# EAGLE library part XCV600ES_FG680 (library xilinx-xcv)
xcv600es_fg680 edit this description Auto generated by make-symbol-device-package-bsdl.ulp Rev. 26 Source: xcv600es_fg680.bsd
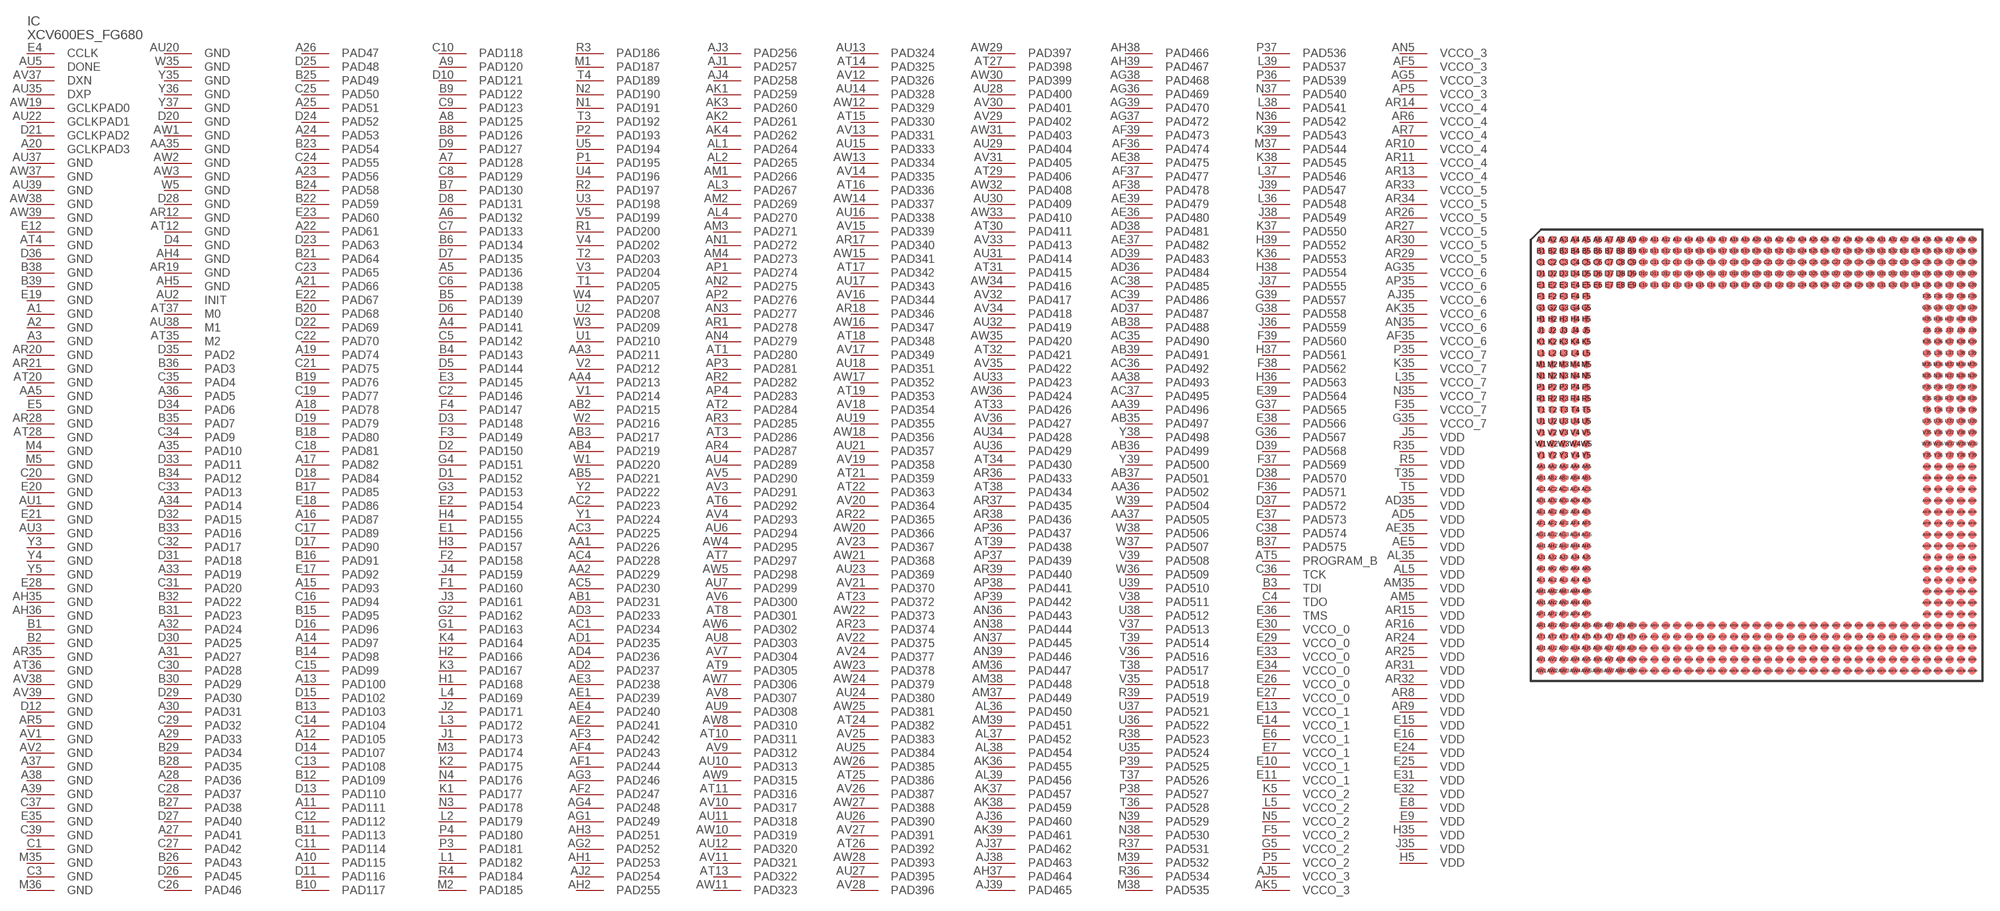
[diagram p125: symbol with the pads of FG680; footprint FG680]

Designator prefix IC

## XCV600ES_FG680  [FG680]
A1  GND  pwr
A2  GND  pwr
A3  GND  pwr
A4  PAD141
A5  PAD136
A6  PAD132
A7  PAD128
A8  PAD125
A9  PAD120
A10  PAD115
A11  PAD111
A12  PAD105
A13  PAD100
A14  PAD97
A15  PAD93
A16  PAD87
A17  PAD82
A18  PAD78
A19  PAD74
A20  GCLKPAD3  in
A21  PAD66
A22  PAD61
A23  PAD56
A24  PAD53
A25  PAD51
A26  PAD47
A27  PAD41
A28  PAD36
A29  PAD33
A30  PAD31
A31  PAD27
A32  PAD24
A33  PAD19
A34  PAD14
A35  PAD10
A36  PAD5
A37  GND  pwr
A38  GND  pwr
A39  GND  pwr
AA1  PAD226
AA2  PAD229
AA3  PAD211
AA4  PAD213
AA5  GND  pwr
AA35  GND  pwr
AA36  PAD502
AA37  PAD505
AA38  PAD493
AA39  PAD496
AB1  PAD231
AB2  PAD215
AB3  PAD217
AB4  PAD219
AB5  PAD221
AB35  PAD497
AB36  PAD499
AB37  PAD501
AB38  PAD488
AB39  PAD491
AC1  PAD234
AC2  PAD223
AC3  PAD225
AC4  PAD228
AC5  PAD230
AC35  PAD490
AC36  PAD492
AC37  PAD495
AC38  PAD485
AC39  PAD486
AD1  PAD235
AD2  PAD237
AD3  PAD233
AD4  PAD236
AD5  VDD  pwr
AD35  VDD  pwr
AD36  PAD484
AD37  PAD487
AD38  PAD481
AD39  PAD483
AE1  PAD239
AE2  PAD241
AE3  PAD238
AE4  PAD240
AE5  VDD  pwr
AE35  VDD  pwr
AE36  PAD480
AE37  PAD482
AE38  PAD475
AE39  PAD479
AF1  PAD244
AF2  PAD247
AF3  PAD242
AF4  PAD243
AF5  VCCO_3  pwr
AF35  VCCO_6  pwr
AF36  PAD474
AF37  PAD477
AF38  PAD478
AF39  PAD473
AG1  PAD249
AG2  PAD252
AG3  PAD246
AG4  PAD248
AG5  VCCO_3  pwr
AG35  VCCO_6  pwr
AG36  PAD469
AG37  PAD472
AG38  PAD468
AG39  PAD470
AH1  PAD253
AH2  PAD255
AH3  PAD251
AH4  GND  pwr
AH5  GND  pwr
AH35  GND  pwr
AH36  GND  pwr
AH37  PAD464
AH38  PAD466
AH39  PAD467
AJ1  PAD257
AJ2  PAD254
AJ3  PAD256
AJ4  PAD258
AJ5  VCCO_3  pwr
AJ35  VCCO_6  pwr
AJ36  PAD460
AJ37  PAD462
AJ38  PAD463
AJ39  PAD465
AK1  PAD259
AK2  PAD261
AK3  PAD260
AK4  PAD262
AK5  VCCO_3  pwr
AK35  VCCO_6  pwr
AK36  PAD455
AK37  PAD457
AK38  PAD459
AK39  PAD461
AL1  PAD264
AL2  PAD265
AL3  PAD267
AL4  PAD270
AL5  VDD  pwr
AL35  VDD  pwr
AL36  PAD450
AL37  PAD452
AL38  PAD454
AL39  PAD456
AM1  PAD266
AM2  PAD269
AM3  PAD271
AM4  PAD273
AM5  VDD  pwr
AM35  VDD  pwr
AM36  PAD447
AM37  PAD449
AM38  PAD448
AM39  PAD451
AN1  PAD272
AN2  PAD275
AN3  PAD277
AN4  PAD279
AN5  VCCO_3  pwr
AN35  VCCO_6  pwr
AN36  PAD443
AN37  PAD445
AN38  PAD444
AN39  PAD446
AP1  PAD274
AP2  PAD276
AP3  PAD281
AP4  PAD283
AP5  VCCO_3  pwr
AP35  VCCO_6  pwr
AP36  PAD437
AP37  PAD439
AP38  PAD441
AP39  PAD442
AR1  PAD278
AR2  PAD282
AR3  PAD285
AR4  PAD287
AR5  GND  pwr
AR6  VCCO_4  pwr
AR7  VCCO_4  pwr
AR8  VDD  pwr
AR9  VDD  pwr
AR10  VCCO_4  pwr
AR11  VCCO_4  pwr
AR12  GND  pwr
AR13  VCCO_4  pwr
AR14  VCCO_4  pwr
AR15  VDD  pwr
AR16  VDD  pwr
AR17  PAD340
AR18  PAD346
AR19  GND  pwr
AR20  GND  pwr
AR21  GND  pwr
AR22  PAD365
AR23  PAD374
AR24  VDD  pwr
AR25  VDD  pwr
AR26  VCCO_5  pwr
AR27  VCCO_5  pwr
AR28  GND  pwr
AR29  VCCO_5  pwr
AR30  VCCO_5  pwr
AR31  VDD  pwr
AR32  VDD  pwr
AR33  VCCO_5  pwr
AR34  VCCO_5  pwr
AR35  GND  pwr
AR36  PAD433
AR37  PAD435
AR38  PAD436
AR39  PAD440
AT1  PAD280
AT2  PAD284
AT3  PAD286
AT4  GND  pwr
AT5  PROGRAM_B  in
AT6  PAD292
AT7  PAD297
AT8  PAD301
AT9  PAD305
AT10  PAD311
AT11  PAD316
AT12  GND  pwr
AT13  PAD322
AT14  PAD325
AT15  PAD330
AT16  PAD336
AT17  PAD342
AT18  PAD348
AT19  PAD353
AT20  GND  pwr
AT21  PAD359
AT22  PAD363
AT23  PAD372
AT24  PAD382
AT25  PAD386
AT26  PAD392
AT27  PAD398
AT28  GND  pwr
AT29  PAD406
AT30  PAD411
AT31  PAD415
AT32  PAD421
AT33  PAD426
AT34  PAD430
AT35  M2  in
AT36  GND  pwr
AT37  M0  in
AT38  PAD434
AT39  PAD438
AU1  GND  pwr
AU2  INIT
AU3  GND  pwr
AU4  PAD289
AU5  DONE
AU6  PAD294
AU7  PAD299
AU8  PAD303
AU9  PAD308
AU10  PAD313
AU11  PAD318
AU12  PAD320
AU13  PAD324
AU14  PAD328
AU15  PAD333
AU16  PAD338
AU17  PAD343
AU18  PAD351
AU19  PAD355
AU20  GND  pwr
AU21  PAD357
AU22  GCLKPAD1  in
AU23  PAD369
AU24  PAD380
AU25  PAD384
AU26  PAD390
AU27  PAD395
AU28  PAD400
AU29  PAD404
AU30  PAD409
AU31  PAD414
AU32  PAD419
AU33  PAD423
AU34  PAD428
AU35  DXP  pas
AU36  PAD429
AU37  GND  pwr
AU38  M1  in
AU39  GND  pwr
AV1  GND  pwr
AV2  GND  pwr
AV3  PAD291
AV4  PAD293
AV5  PAD290
AV6  PAD300
AV7  PAD304
AV8  PAD307
AV9  PAD312
AV10  PAD317
AV11  PAD321
AV12  PAD326
AV13  PAD331
AV14  PAD335
AV15  PAD339
AV16  PAD344
AV17  PAD349
AV18  PAD354
AV19  PAD358
AV20  PAD364
AV21  PAD370
AV22  PAD375
AV23  PAD367
AV24  PAD377
AV25  PAD383
AV26  PAD387
AV27  PAD391
AV28  PAD396
AV29  PAD402
AV30  PAD401
AV31  PAD405
AV32  PAD417
AV33  PAD413
AV34  PAD418
AV35  PAD422
AV36  PAD427
AV37  DXN  pas
AV38  GND  pwr
AV39  GND  pwr
AW1  GND  pwr
AW2  GND  pwr
AW3  GND  pwr
AW4  PAD295
AW5  PAD298
AW6  PAD302
AW7  PAD306
AW8  PAD310
AW9  PAD315
AW10  PAD319
AW11  PAD323
AW12  PAD329
AW13  PAD334
AW14  PAD337
AW15  PAD341
AW16  PAD347
AW17  PAD352
AW18  PAD356
AW19  GCLKPAD0  in
AW20  PAD366
AW21  PAD368
AW22  PAD373
AW23  PAD378
AW24  PAD379
AW25  PAD381
AW26  PAD385
AW27  PAD388
AW28  PAD393
AW29  PAD397
AW30  PAD399
AW31  PAD403
AW32  PAD408
AW33  PAD410
AW34  PAD416
AW35  PAD420
AW36  PAD424
AW37  GND  pwr
AW38  GND  pwr
AW39  GND  pwr
B1  GND  pwr
B2  GND  pwr
B3  TDI  in
B4  PAD143
B5  PAD139
B6  PAD134
B7  PAD130
B8  PAD126
B9  PAD122
B10  PAD117
B11  PAD113
B12  PAD109
B13  PAD103
B14  PAD98
B15  PAD95
B16  PAD91
B17  PAD85
B18  PAD80
B19  PAD76
B20  PAD68
B21  PAD64
B22  PAD59
B23  PAD54
B24  PAD58
B25  PAD49
B26  PAD43
B27  PAD38
B28  PAD35
B29  PAD34
B30  PAD29
B31  PAD23
B32  PAD22
B33  PAD16
B34  PAD12
B35  PAD7
B36  PAD3
B37  PAD575
B38  GND  pwr
B39  GND  pwr
C1  GND  pwr
C2  PAD146
C3  GND  pwr
C4  TDO  out
C5  PAD142
C6  PAD138
C7  PAD133
C8  PAD129
C9  PAD123
C10  PAD118
C11  PAD114
C12  PAD112
C13  PAD108
C14  PAD104
C15  PAD99
C16  PAD94
C17  PAD89
C18  PAD81
C19  PAD77
C20  GND  pwr
C21  PAD75
C22  PAD70
C23  PAD65
C24  PAD55
C25  PAD50
C26  PAD46
C27  PAD42
C28  PAD37
C29  PAD32
C30  PAD28
C31  PAD20
C32  PAD17
C33  PAD13
C34  PAD9
C35  PAD4
C36  TCK  in
C37  GND  pwr
C38  PAD574
C39  GND  pwr
D1  PAD152
D2  PAD150
D3  PAD148
D4  GND  pwr
D5  PAD144
D6  PAD140
D7  PAD135
D8  PAD131
D9  PAD127
D10  PAD121
D11  PAD116
D12  GND  pwr
D13  PAD110
D14  PAD107
D15  PAD102
D16  PAD96
D17  PAD90
D18  PAD84
D19  PAD79
D20  GND  pwr
D21  GCLKPAD2  in
D22  PAD69
D23  PAD63
D24  PAD52
D25  PAD48
D26  PAD45
D27  PAD40
D28  GND  pwr
D29  PAD30
D30  PAD25
D31  PAD18
D32  PAD15
D33  PAD11
D34  PAD6
D35  PAD2
D36  GND  pwr
D37  PAD572
D38  PAD570
D39  PAD568
E1  PAD156
E2  PAD154
E3  PAD145
E4  CCLK
E5  GND  pwr
E6  VCCO_1  pwr
E7  VCCO_1  pwr
E8  VDD  pwr
E9  VDD  pwr
E10  VCCO_1  pwr
E11  VCCO_1  pwr
E12  GND  pwr
E13  VCCO_1  pwr
E14  VCCO_1  pwr
E15  VDD  pwr
E16  VDD  pwr
E17  PAD92
E18  PAD86
E19  GND  pwr
E20  GND  pwr
E21  GND  pwr
E22  PAD67
E23  PAD60
E24  VDD  pwr
E25  VDD  pwr
E26  VCCO_0  pwr
E27  VCCO_0  pwr
E28  GND  pwr
E29  VCCO_0  pwr
E30  VCCO_0  pwr
E31  VDD  pwr
E32  VDD  pwr
E33  VCCO_0  pwr
E34  VCCO_0  pwr
E35  GND  pwr
E36  TMS  in
E37  PAD573
E38  PAD566
E39  PAD564
F1  PAD160
F2  PAD158
F3  PAD149
F4  PAD147
F5  VCCO_2  pwr
F35  VCCO_7  pwr
F36  PAD571
F37  PAD569
F38  PAD562
F39  PAD560
G1  PAD163
G2  PAD162
G3  PAD153
G4  PAD151
G5  VCCO_2  pwr
G35  VCCO_7  pwr
G36  PAD567
G37  PAD565
G38  PAD558
G39  PAD557
H1  PAD168
H2  PAD166
H3  PAD157
H4  PAD155
H5  VDD  pwr
H35  VDD  pwr
H36  PAD563
H37  PAD561
H38  PAD554
H39  PAD552
J1  PAD173
J2  PAD171
J3  PAD161
J4  PAD159
J5  VDD  pwr
J35  VDD  pwr
J36  PAD559
J37  PAD555
J38  PAD549
J39  PAD547
K1  PAD177
K2  PAD175
K3  PAD167
K4  PAD164
K5  VCCO_2  pwr
K35  VCCO_7  pwr
K36  PAD553
K37  PAD550
K38  PAD545
K39  PAD543
L1  PAD182
L2  PAD179
L3  PAD172
L4  PAD169
L5  VCCO_2  pwr
L35  VCCO_7  pwr
L36  PAD548
L37  PAD546
L38  PAD541
L39  PAD537
M1  PAD187
M2  PAD185
M3  PAD174
M4  GND  pwr
M5  GND  pwr
M35  GND  pwr
M36  GND  pwr
M37  PAD544
M38  PAD535
M39  PAD532
N1  PAD191
N2  PAD190
N3  PAD178
N4  PAD176
N5  VCCO_2  pwr
N35  VCCO_7  pwr
N36  PAD542
N37  PAD540
N38  PAD530
N39  PAD529
P1  PAD195
P2  PAD193
P3  PAD181
P4  PAD180
P5  VCCO_2  pwr
P35  VCCO_7  pwr
P36  PAD539
P37  PAD536
P38  PAD527
P39  PAD525
R1  PAD200
R2  PAD197
R3  PAD186
R4  PAD184
R5  VDD  pwr
R35  VDD  pwr
R36  PAD534
R37  PAD531
R38  PAD523
R39  PAD519
T1  PAD205
T2  PAD203
T3  PAD192
T4  PAD189
T5  VDD  pwr
T35  VDD  pwr
T36  PAD528
T37  PAD526
T38  PAD517
T39  PAD514
U1  PAD210
U2  PAD208
U3  PAD198
U4  PAD196
U5  PAD194
U35  PAD524
U36  PAD522
U37  PAD521
U38  PAD512
U39  PAD510
V1  PAD214
V2  PAD212
V3  PAD204
V4  PAD202
V5  PAD199
V35  PAD518
V36  PAD516
V37  PAD513
V38  PAD511
V39  PAD508
W1  PAD220
W2  PAD216
W3  PAD209
W4  PAD207
W5  GND  pwr
W35  GND  pwr
W36  PAD509
W37  PAD507
W38  PAD506
W39  PAD504
Y1  PAD224
Y2  PAD222
Y3  GND  pwr
Y4  GND  pwr
Y5  GND  pwr
Y35  GND  pwr
Y36  GND  pwr
Y37  GND  pwr
Y38  PAD498
Y39  PAD500

## Footprint FG680 (pad centres in mm)
xcv1000_fg680_1532 edit this description Auto generated by make-symbol-device-package-bsdl.ulp Rev. 26 Source: xcv1000_fg680_1532.bsd
smd 0.7 x 0.7: A1 -19,19; A2 -18,19; A3 -17,19; A4 -16,19; A5 -15,19; A6 -14,19; A7 -13,19; A8 -12,19; A9 -11,19; A10 -10,19; A11 -9,19; A12 -8,19; A13 -7,19; A14 -6,19; A15 -5,19; A16 -4,19; A17 -3,19; A18 -2,19; A19 -1,19; A20 0,19; A21 1,19; A22 2,19; A23 3,19; A24 4,19; A25 5,19; A26 6,19; A27 7,19; A28 8,19; A29 9,19; A30 10,19; A31 11,19; A32 12,19; A33 13,19; A34 14,19; A35 15,19; A36 16,19; A37 17,19; A38 18,19; A39 19,19; AA1 -19,-1; AA2 -18,-1; AA3 -17,-1; AA4 -16,-1; AA5 -15,-1; AA35 15,-1; AA36 16,-1; AA37 17,-1; AA38 18,-1; AA39 19,-1; AB1 -19,-2; AB2 -18,-2; AB3 -17,-2; AB4 -16,-2; AB5 -15,-2; AB35 15,-2; AB36 16,-2; AB37 17,-2; AB38 18,-2; AB39 19,-2; AC1 -19,-3; AC2 -18,-3; AC3 -17,-3; AC4 -16,-3; AC5 -15,-3; AC35 15,-3; AC36 16,-3; AC37 17,-3; AC38 18,-3; AC39 19,-3; AD1 -19,-4; AD2 -18,-4; AD3 -17,-4; AD4 -16,-4; AD5 -15,-4; AD35 15,-4; AD36 16,-4; AD37 17,-4; AD38 18,-4; AD39 19,-4; AE1 -19,-5; AE2 -18,-5; AE3 -17,-5; AE4 -16,-5; AE5 -15,-5; AE35 15,-5; AE36 16,-5; AE37 17,-5; AE38 18,-5; AE39 19,-5; AF1 -19,-6; AF2 -18,-6; AF3 -17,-6; AF4 -16,-6; AF5 -15,-6; AF35 15,-6; AF36 16,-6; AF37 17,-6; AF38 18,-6; AF39 19,-6; AG1 -19,-7; AG2 -18,-7; AG3 -17,-7; AG4 -16,-7; AG5 -15,-7; AG35 15,-7; AG36 16,-7; AG37 17,-7; AG38 18,-7; AG39 19,-7; AH1 -19,-8; AH2 -18,-8; AH3 -17,-8; AH4 -16,-8; AH5 -15,-8; AH35 15,-8; AH36 16,-8; AH37 17,-8; AH38 18,-8; AH39 19,-8; AJ1 -19,-9; AJ2 -18,-9; AJ3 -17,-9; AJ4 -16,-9; AJ5 -15,-9; AJ35 15,-9; AJ36 16,-9; AJ37 17,-9; AJ38 18,-9; AJ39 19,-9; AK1 -19,-10; AK2 -18,-10; AK3 -17,-10; AK4 -16,-10; AK5 -15,-10; AK35 15,-10; AK36 16,-10; AK37 17,-10; AK38 18,-10; AK39 19,-10; AL1 -19,-11; AL2 -18,-11; AL3 -17,-11; AL4 -16,-11; AL5 -15,-11; AL35 15,-11; AL36 16,-11; AL37 17,-11; AL38 18,-11; AL39 19,-11; AM1 -19,-12; AM2 -18,-12; AM3 -17,-12; AM4 -16,-12; AM5 -15,-12; AM35 15,-12; AM36 16,-12; AM37 17,-12; AM38 18,-12; AM39 19,-12; AN1 -19,-13; AN2 -18,-13; AN3 -17,-13; AN4 -16,-13; AN5 -15,-13; AN35 15,-13; AN36 16,-13; AN37 17,-13; AN38 18,-13; AN39 19,-13; AP1 -19,-14; AP2 -18,-14; AP3 -17,-14; AP4 -16,-14; AP5 -15,-14; AP35 15,-14; AP36 16,-14; AP37 17,-14; AP38 18,-14; AP39 19,-14; AR1 -19,-15; AR2 -18,-15; AR3 -17,-15; AR4 -16,-15; AR5 -15,-15; AR6 -14,-15; AR7 -13,-15; AR8 -12,-15; AR9 -11,-15; AR10 -10,-15; AR11 -9,-15; AR12 -8,-15; AR13 -7,-15; AR14 -6,-15; AR15 -5,-15; AR16 -4,-15; AR17 -3,-15; AR18 -2,-15; AR19 -1,-15; AR20 0,-15; AR21 1,-15; AR22 2,-15; AR23 3,-15; AR24 4,-15; AR25 5,-15; AR26 6,-15; AR27 7,-15; AR28 8,-15; AR29 9,-15; AR30 10,-15; AR31 11,-15; AR32 12,-15; AR33 13,-15; AR34 14,-15; AR35 15,-15; AR36 16,-15; AR37 17,-15; AR38 18,-15; AR39 19,-15; AT1 -19,-16; AT2 -18,-16; AT3 -17,-16; AT4 -16,-16; AT5 -15,-16; AT6 -14,-16; AT7 -13,-16; AT8 -12,-16; AT9 -11,-16; AT10 -10,-16; AT11 -9,-16; AT12 -8,-16; AT13 -7,-16; AT14 -6,-16; AT15 -5,-16; AT16 -4,-16; AT17 -3,-16; AT18 -2,-16; AT19 -1,-16; AT20 0,-16; AT21 1,-16; AT22 2,-16; AT23 3,-16; AT24 4,-16; AT25 5,-16; AT26 6,-16; AT27 7,-16; AT28 8,-16; AT29 9,-16; AT30 10,-16; AT31 11,-16; AT32 12,-16; AT33 13,-16; AT34 14,-16; AT35 15,-16; AT36 16,-16; AT37 17,-16; AT38 18,-16; AT39 19,-16; AU1 -19,-17; AU2 -18,-17; AU3 -17,-17; AU4 -16,-17; AU5 -15,-17; AU6 -14,-17; AU7 -13,-17; AU8 -12,-17; AU9 -11,-17; AU10 -10,-17; AU11 -9,-17; AU12 -8,-17; AU13 -7,-17; AU14 -6,-17; AU15 -5,-17; AU16 -4,-17; AU17 -3,-17; AU18 -2,-17; AU19 -1,-17; AU20 0,-17; AU21 1,-17; AU22 2,-17; AU23 3,-17; AU24 4,-17; AU25 5,-17; AU26 6,-17; AU27 7,-17; AU28 8,-17; AU29 9,-17; AU30 10,-17; AU31 11,-17; AU32 12,-17; AU33 13,-17; AU34 14,-17; AU35 15,-17; AU36 16,-17; AU37 17,-17; AU38 18,-17; AU39 19,-17; AV1 -19,-18; AV2 -18,-18; AV3 -17,-18; AV4 -16,-18; AV5 -15,-18; AV6 -14,-18; AV7 -13,-18; AV8 -12,-18; AV9 -11,-18; AV10 -10,-18; AV11 -9,-18; AV12 -8,-18; AV13 -7,-18; AV14 -6,-18; AV15 -5,-18; AV16 -4,-18; AV17 -3,-18; AV18 -2,-18; AV19 -1,-18; AV20 0,-18; AV21 1,-18; AV22 2,-18; AV23 3,-18; AV24 4,-18; AV25 5,-18; AV26 6,-18; AV27 7,-18; AV28 8,-18; AV29 9,-18; AV30 10,-18; AV31 11,-18; AV32 12,-18; AV33 13,-18; AV34 14,-18; AV35 15,-18; AV36 16,-18; AV37 17,-18; AV38 18,-18; AV39 19,-18; AW1 -19,-19; AW2 -18,-19; AW3 -17,-19; AW4 -16,-19; AW5 -15,-19; AW6 -14,-19; AW7 -13,-19; AW8 -12,-19; AW9 -11,-19; AW10 -10,-19; AW11 -9,-19; AW12 -8,-19; AW13 -7,-19; AW14 -6,-19; AW15 -5,-19; AW16 -4,-19; AW17 -3,-19; AW18 -2,-19; AW19 -1,-19; AW20 0,-19; AW21 1,-19; AW22 2,-19; AW23 3,-19; AW24 4,-19; AW25 5,-19; AW26 6,-19; AW27 7,-19; AW28 8,-19; AW29 9,-19; AW30 10,-19; AW31 11,-19; AW32 12,-19; AW33 13,-19; AW34 14,-19; AW35 15,-19; AW36 16,-19; AW37 17,-19; AW38 18,-19; AW39 19,-19; B1 -19,18; B2 -18,18; B3 -17,18; B4 -16,18; B5 -15,18; B6 -14,18; B7 -13,18; B8 -12,18; B9 -11,18; B10 -10,18; B11 -9,18; B12 -8,18; B13 -7,18; B14 -6,18; B15 -5,18; B16 -4,18; B17 -3,18; B18 -2,18; B19 -1,18; B20 0,18; B21 1,18; B22 2,18; B23 3,18; B24 4,18; B25 5,18; B26 6,18; B27 7,18; B28 8,18; B29 9,18; B30 10,18; B31 11,18; B32 12,18; B33 13,18; B34 14,18; B35 15,18; B36 16,18; B37 17,18; B38 18,18; B39 19,18; C1 -19,17; C2 -18,17; C3 -17,17; C4 -16,17; C5 -15,17; C6 -14,17; C7 -13,17; C8 -12,17; C9 -11,17; C10 -10,17; C11 -9,17; C12 -8,17; C13 -7,17; C14 -6,17; C15 -5,17; C16 -4,17; C17 -3,17; C18 -2,17; C19 -1,17; C20 0,17; C21 1,17; C22 2,17; C23 3,17; C24 4,17; C25 5,17; C26 6,17; C27 7,17; C28 8,17; C29 9,17; C30 10,17; C31 11,17; C32 12,17; C33 13,17; C34 14,17; C35 15,17; C36 16,17; C37 17,17; C38 18,17; C39 19,17; D1 -19,16; D2 -18,16; D3 -17,16; D4 -16,16; D5 -15,16; D6 -14,16; D7 -13,16; D8 -12,16; D9 -11,16; D10 -10,16; D11 -9,16; D12 -8,16; D13 -7,16; D14 -6,16; D15 -5,16; D16 -4,16; D17 -3,16; D18 -2,16; D19 -1,16; D20 0,16; D21 1,16; D22 2,16; D23 3,16; D24 4,16; D25 5,16; D26 6,16; D27 7,16; D28 8,16; D29 9,16; D30 10,16; D31 11,16; D32 12,16; D33 13,16; D34 14,16; D35 15,16; D36 16,16; D37 17,16; D38 18,16; D39 19,16; E1 -19,15; E2 -18,15; E3 -17,15; E4 -16,15; E5 -15,15; E6 -14,15; E7 -13,15; E8 -12,15; E9 -11,15; E10 -10,15; E11 -9,15; E12 -8,15; E13 -7,15; E14 -6,15; E15 -5,15; E16 -4,15; E17 -3,15; E18 -2,15; E19 -1,15; E20 0,15; E21 1,15; E22 2,15; E23 3,15; E24 4,15; E25 5,15; E26 6,15; E27 7,15; E28 8,15; E29 9,15; E30 10,15; E31 11,15; E32 12,15; E33 13,15; E34 14,15; E35 15,15; E36 16,15; E37 17,15; E38 18,15; E39 19,15; F1 -19,14; F2 -18,14; F3 -17,14; F4 -16,14; F5 -15,14; F35 15,14; F36 16,14; F37 17,14; F38 18,14; F39 19,14; G1 -19,13; G2 -18,13; G3 -17,13; G4 -16,13; G5 -15,13; G35 15,13; G36 16,13; G37 17,13; G38 18,13; G39 19,13; H1 -19,12; H2 -18,12; H3 -17,12; H4 -16,12; H5 -15,12; H35 15,12; H36 16,12; H37 17,12; H38 18,12; H39 19,12; J1 -19,11; J2 -18,11; J3 -17,11; J4 -16,11; J5 -15,11; J35 15,11; J36 16,11; J37 17,11; J38 18,11; J39 19,11; K1 -19,10; K2 -18,10; K3 -17,10; K4 -16,10; K5 -15,10; K35 15,10; K36 16,10; K37 17,10; K38 18,10; K39 19,10; L1 -19,9; L2 -18,9; L3 -17,9; L4 -16,9; L5 -15,9; L35 15,9; L36 16,9; L37 17,9; L38 18,9; L39 19,9; M1 -19,8; M2 -18,8; M3 -17,8; M4 -16,8; M5 -15,8; M35 15,8; M36 16,8; M37 17,8; M38 18,8; M39 19,8; N1 -19,7; N2 -18,7; N3 -17,7; N4 -16,7; N5 -15,7; N35 15,7; N36 16,7; N37 17,7; N38 18,7; N39 19,7; P1 -19,6; P2 -18,6; P3 -17,6; P4 -16,6; P5 -15,6; P35 15,6; P36 16,6; P37 17,6; P38 18,6; P39 19,6; R1 -19,5; R2 -18,5; R3 -17,5; R4 -16,5; R5 -15,5; R35 15,5; R36 16,5; R37 17,5; R38 18,5; R39 19,5; T1 -19,4; T2 -18,4; T3 -17,4; T4 -16,4; T5 -15,4; T35 15,4; T36 16,4; T37 17,4; T38 18,4; T39 19,4; U1 -19,3; U2 -18,3; U3 -17,3; U4 -16,3; U5 -15,3; U35 15,3; U36 16,3; U37 17,3; U38 18,3; U39 19,3; V1 -19,2; V2 -18,2; V3 -17,2; V4 -16,2; V5 -15,2; V35 15,2; V36 16,2; V37 17,2; V38 18,2; V39 19,2; W1 -19,1; W2 -18,1; W3 -17,1; W4 -16,1; W5 -15,1; W35 15,1; W36 16,1; W37 17,1; W38 18,1; W39 19,1; Y1 -19,0; Y2 -18,0; Y3 -17,0; Y4 -16,0; Y5 -15,0; Y35 15,0; Y36 16,0; Y37 17,0; Y38 18,0; Y39 19,0